# Altium footprint library 517465304.PcbLib: 1 footprints
Each footprint in its own frame and in the unit in brackets; x right, y up, seen from the top. Pads: shape width x height; smd on the part's side, far side on the other; paste and mask are expansions set on the pad; w line width, h text height; cw(c..) or ccw(c..) is an arc to the next point about the centre after c.
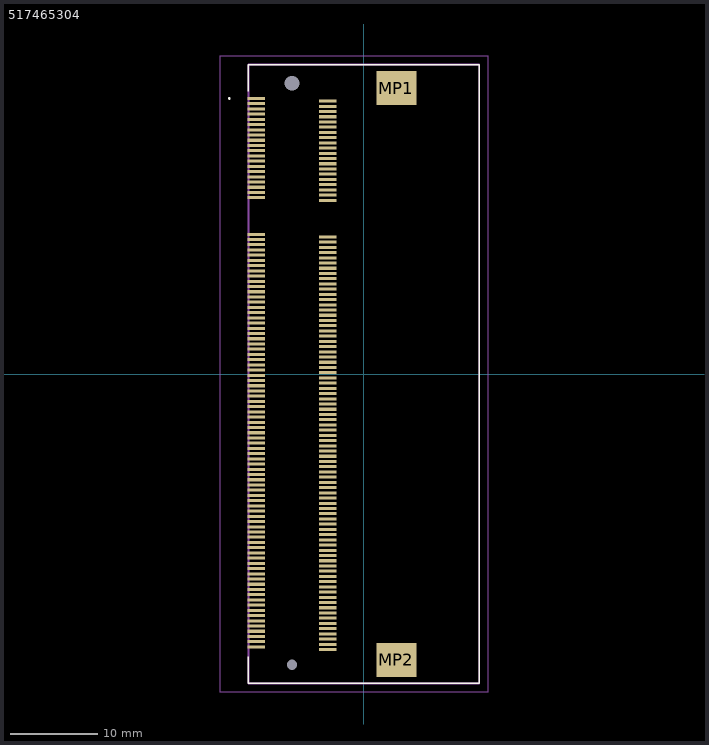
[diagram p0: the footprint, top view; thin cyan lines are the x and y axes]

## 517465304 [mm]
pads (204):
  rect 2x0.35 smd: 1(-12.35,31.65) 2(-4.15,31.35) 3(-12.35,31.05) 4(-4.15,30.75) 5(-12.35,30.45) 6(-4.15,30.15) 7(-12.35,29.85) 8(-4.15,29.55) 9(-12.35,29.25) 10(-4.15,28.95) 11(-12.35,28.65) 12(-4.15,28.35) 13(-12.35,28.05) 14(-4.15,27.75) 15(-12.35,27.45) 16(-4.15,27.15) 17(-12.35,26.85) 18(-4.15,26.55) 19(-12.35,26.25) 20(-4.15,25.95) 21(-12.35,25.65) 22(-4.15,25.35) 23(-12.35,25.05) 24(-4.15,24.75) 25(-12.35,24.45) 26(-4.15,24.15) 27(-12.35,23.85) 28(-4.15,23.55) 29(-12.35,23.25) 30(-4.15,22.95) 31(-12.35,22.65) 32(-4.15,22.35) 33(-12.35,22.05) 34(-4.15,21.75) 35(-12.35,21.45) 36(-4.15,21.15) 37(-12.35,20.85) 38(-4.15,20.55) 39(-12.35,20.25) 40(-4.15,19.95) 41(-12.35,16.05) 42(-4.15,15.75) 43(-12.35,15.45) 44(-4.15,15.15) 45(-12.35,14.85) 46(-4.15,14.55) 47(-12.35,14.25) 48(-4.15,13.95) 49(-12.35,13.65) 50(-4.15,13.35) 51(-12.35,13.05) 52(-4.15,12.75) 53(-12.35,12.45) 54(-4.15,12.15) 55(-12.35,11.85) 56(-4.15,11.55) 57(-12.35,11.25) 58(-4.15,10.95) 59(-12.35,10.65) 60(-4.15,10.35) 61(-12.35,10.05) 62(-4.15,9.75) 63(-12.35,9.45) 64(-4.15,9.15) 65(-12.35,8.85) 66(-4.15,8.55) 67(-12.35,8.25) 68(-4.15,7.95) 69(-12.35,7.65) 70(-4.15,7.35) 71(-12.35,7.05) 72(-4.15,6.75) 73(-12.35,6.45) 74(-4.15,6.15) 75(-12.35,5.85) 76(-4.15,5.55) 77(-12.35,5.25) 78(-4.15,4.95) 79(-12.35,4.65) 80(-4.15,4.35) 81(-12.35,4.05) 82(-4.15,3.75) 83(-12.35,3.45) 84(-4.15,3.15) 85(-12.35,2.85) 86(-4.15,2.55) 87(-12.35,2.25) 88(-4.15,1.95) 89(-12.35,1.65) 90(-4.15,1.35) 91(-12.35,1.05) 92(-4.15,0.75) 93(-12.35,0.45) 94(-4.15,0.15) 95(-12.35,-0.15) 96(-4.15,-0.45) 97(-12.35,-0.75) 98(-4.15,-1.05) 99(-12.35,-1.35) 100(-4.15,-1.65) 101(-12.35,-1.95) 102(-4.15,-2.25) 103(-12.35,-2.55) 104(-4.15,-2.85) 105(-12.35,-3.15) 106(-4.15,-3.45) 107(-12.35,-3.75) 108(-4.15,-4.05) 109(-12.35,-4.35) 110(-4.15,-4.65) 111(-12.35,-4.95) 112(-4.15,-5.25) 113(-12.35,-5.55) 114(-4.15,-5.85) 115(-12.35,-6.15) 116(-4.15,-6.45) 117(-12.35,-6.75) 118(-4.15,-7.05) 119(-12.35,-7.35) 120(-4.15,-7.65) 121(-12.35,-7.95) 122(-4.15,-8.25) 123(-12.35,-8.55) 124(-4.15,-8.85) 125(-12.35,-9.15) 126(-4.15,-9.45) 127(-12.35,-9.75) 128(-4.15,-10.05) 129(-12.35,-10.35) 130(-4.15,-10.65) 131(-12.35,-10.95) 132(-4.15,-11.25) 133(-12.35,-11.55) 134(-4.15,-11.85) 135(-12.35,-12.15) 136(-4.15,-12.45) 137(-12.35,-12.75) 138(-4.15,-13.05) 139(-12.35,-13.35) 140(-4.15,-13.65) 141(-12.35,-13.95) 142(-4.15,-14.25) 143(-12.35,-14.55) 144(-4.15,-14.85) 145(-12.35,-15.15) 146(-4.15,-15.45) 147(-12.35,-15.75) 148(-4.15,-16.05) 149(-12.35,-16.35) 150(-4.15,-16.65) 151(-12.35,-16.95) 152(-4.15,-17.25) 153(-12.35,-17.55) 154(-4.15,-17.85) 155(-12.35,-18.15) 156(-4.15,-18.45) 157(-12.35,-18.75) 158(-4.15,-19.05) 159(-12.35,-19.35) 160(-4.15,-19.65) 161(-12.35,-19.95) 162(-4.15,-20.25) 163(-12.35,-20.55) 164(-4.15,-20.85) 165(-12.35,-21.15) 166(-4.15,-21.45) 167(-12.35,-21.75) 168(-4.15,-22.05) 169(-12.35,-22.35) 170(-4.15,-22.65) 171(-12.35,-22.95) 172(-4.15,-23.25) 173(-12.35,-23.55) 174(-4.15,-23.85) 175(-12.35,-24.15) 176(-4.15,-24.45) 177(-12.35,-24.75) 178(-4.15,-25.05) 179(-12.35,-25.35) 180(-4.15,-25.65) 181(-12.35,-25.95) 182(-4.15,-26.25) 183(-12.35,-26.55) 184(-4.15,-26.85) 185(-12.35,-27.15) 186(-4.15,-27.45) 187(-12.35,-27.75) 188(-4.15,-28.05) 189(-12.35,-28.35) 190(-4.15,-28.65) 191(-12.35,-28.95) 192(-4.15,-29.25) 193(-12.35,-29.55) 194(-4.15,-29.85) 195(-12.35,-30.15) 196(-4.15,-30.45) 197(-12.35,-30.75) 198(-4.15,-31.05) 199(-12.35,-31.35) 200(-4.15,-31.65)
  round 0.85 hole 1.7 unplated: MH1(-8.25,33.4)
  round 0.6 hole 1.2 unplated: MH2(-8.25,-33.4)
  rect 4.6x3.9 smd: MP1(3.75,32.85) MP2(3.75,-32.85)
Top Overlay:
  lines w0.1: -13.25,-35.55 13.25,-35.55 ; -13.25,-35.55 -13.25,-35.55 ; -13.25,-35.55 13.25,-35.55 ; -13.25,-35.55 -13.25,-35.55 ; -13.25,-35.55 -13.25,-32.5 ; -13.25,-35.55 -13.25,-32.5 ; -13.25,-32.5 -13.25,-32.5 ; -13.25,32.5 -13.25,32.5 ; -13.25,32.5 -13.25,35.55 ; -13.25,32.5 -13.25,35.55 ; -13.25,35.55 -13.25,35.55 ; -13.25,35.55 13.25,35.55 ; -13.25,35.55 13.25,35.55 ; -13.25,35.55 -13.25,35.55 ; 13.25,-35.55 13.25,35.55 ; 13.25,-35.55 13.25,-35.55 ; 13.25,-35.55 13.25,35.55 ; 13.25,-35.55 13.25,-35.55 ; 13.25,35.55 13.25,35.55 ; 13.25,35.55 13.25,35.55
  lines w0.2: -15.5,31.65 -15.5,31.65 ; -15.5,31.65 ccw(c-15.45,31.65) -15.4,31.65 ; -15.5,31.65 cw(c-15.45,31.65) -15.4,31.65 ; -15.5,31.65 -15.5,31.65 ; -15.5,31.65 ccw(c-15.45,31.65) -15.4,31.65 ; -15.4,31.65 -15.4,31.65
Mechanical 15:
  lines w0.2: -13.25,-35.55 13.25,-35.55 13.25,35.55 -13.25,35.55 -13.25,-35.55
Mechanical 20:
  lines w0.1: -16.5,-36.55 14.25,-36.55 14.25,36.55 -16.5,36.55 -16.5,-36.55